# Altium schematic symbol library 691 242 810 0xx.SchLib: 3 symbols
Pins are listed as number, name and electrical type; pins without a type are passive.

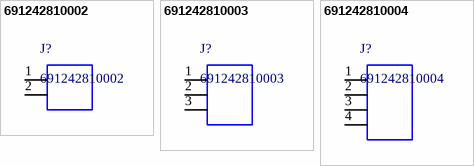
[diagram p0: symbols 691242810002 to 691242810004]

## 691242810002
designator J?
WR-TBL Horizontal Cable Entry With Rising Cage Clamp,Serie 2428 - 10.00 mm; Manufacturer: Wurth Elektronik; ComponentLink1 Description: Manufacturer; ComponentLink2 Description: Datasheet; ComponentLink1URL: http://www.we-online.de; ComponentLink2URL: http://katalog.we-online.de/em/datasheet/6912428100XX.pdf; Created by: Baojun Chen; Created Date: 9.Sep.2015; partNo: 691242810002
footprint 691242810002 (Serie 2428 - 10.00 mm _ 2 pins)
pins: 1, 2

## 691242810003
designator J?
WR-TBL Horizontal Cable Entry With Rising Cage Clamp,Serie 2428 - 10.00 mm; Manufacturer: Wurth Elektronik; ComponentLink1 Description: Manufacturer; ComponentLink2 Description: Datasheet; ComponentLink1URL: http://www.we-online.de; ComponentLink2URL: http://katalog.we-online.de/em/datasheet/6912428100XX.pdf; Created by: Baojun Chen; Created Date: 9.Sep.2015; partNo: 691242810003
footprint 691242810003 (Serie 2428 - 10.00 mm _ 3 pins)
pins: 1, 2, 3

## 691242810004
designator J?
WR-TBL Horizontal Cable Entry With Rising Cage Clamp,Serie 2428 - 10.00 mm; Manufacturer: Wurth Elektronik; ComponentLink1 Description: Manufacturer; ComponentLink2 Description: Datasheet; ComponentLink1URL: http://www.we-online.de; ComponentLink2URL: http://katalog.we-online.de/em/datasheet/6912428100XX.pdf; Created by: Baojun Chen; Created Date: 9.Sep.2015; partNo: 691242810004
footprint 691242810004 (Serie 2428 - 10.00 mm _ 4 pins)
pins: 1, 2, 3, 4